# Altium footprint library LMS1585ACT-3P3&slash_NOPB.PcbLib: 1 footprints
Each footprint in its own frame and in the unit in brackets; x right, y up, seen from the top. Pads: shape width x height; smd on the part's side, far side on the other; paste and mask are expansions set on the pad; w line width, h text height; cw(c..) or ccw(c..) is an arc to the next point about the centre after c.
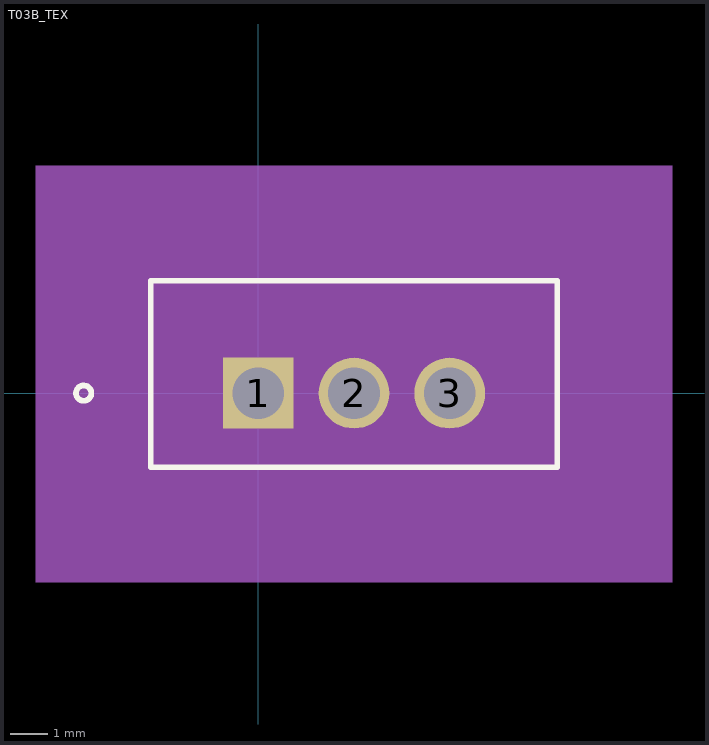
[diagram p0: the footprint, top view; thin cyan lines are the x and y axes]

## T03B_TEX [mil]
pads (3):
  rect 74x74 hole 54: 1(0,0)
  round 74 hole 54: 2(100,0) 3(200,0)
Top Overlay:
  circle w6: c-182.5,0 r8
  lines w6: -112.5,-77.5 312.5,-77.5 312.5,117.5 -112.5,117.5 -112.5,-77.5
Mechanical 5:
  region: -232.5,237.5 432.5,237.5 432.5,-197.5 -232.5,-197.5
Mechanical 13:
  circle w0: c-87.5,0 r8
  lines w1: -107.5,-72.5 307.5,-72.5 307.5,112.5 -107.5,112.5 -107.5,-72.5
  lines w6: -10,0 10,0 ; 0,-10 0,10
Mechanical 15:
  region: 317.5,-82.5 -117.5,-82.5 -117.5,122.5 317.5,122.5
  lines w6: -117.5,-82.5 -117.5,122.5 317.5,122.5 317.5,-82.5 -117.5,-82.5
3D body "T03B_TEX.step": height 770, standoff -275.98, extent -107.52,-72.52 307.52,112.52